# Altium schematic symbol library 68nH_inductor_0805_Components - 15.03.22 - 13.52.SchLib: 1 symbol
Pins are listed as number, name and electrical type; pins without a type are passive.

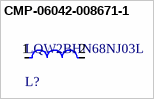
[diagram p0: symbol CMP-06042-008671-1]

## CMP-06042-008671-1
designator L?, comment LQW2BHN68NJ03L
Wire Wound RF Inductor 68nH ±5% 460mA 0.23Ω 0805 (2015); Shielding: Unshielded; DC Resistance (DCR): 230mR; Q Factor: 40; Test Frequency: 100MHz; Self Resonant Frequency: 1.2GHz; Core Material: Non-Magnetic; Depth: 1.7mm; Height - Seated (Max): 0.07inch; Case/Package: 0805; Min Operating Temperature: -40°C; Package Quantity: 2000; Weight: 0.000317oz; Max Operating Temperature: 85°C; Width: 0.059inch; Length: 2.2mm; DC Current: 460mA; Current Rating: 460mA; Radiation Hardening: No; Termination: SMD/SMT; Case Code (Metric): 2015; Max DC Current: 460mA; Mount: Surface Mount; Military Standard: Not; Inductance: 68nH; Tolerance: 5%; Packaging: Tape and Reel; Resistor Type: Wirewound; Height: 1.7mm; Case Code (Imperial): 0805
footprint FP-LQW2BHN_03-MFG
pins: 1, 2